# EAGLE library part RJ45 (library magzor-connectors)
-SE: Molex 43249-8104; -TE: Molex 42878-1001
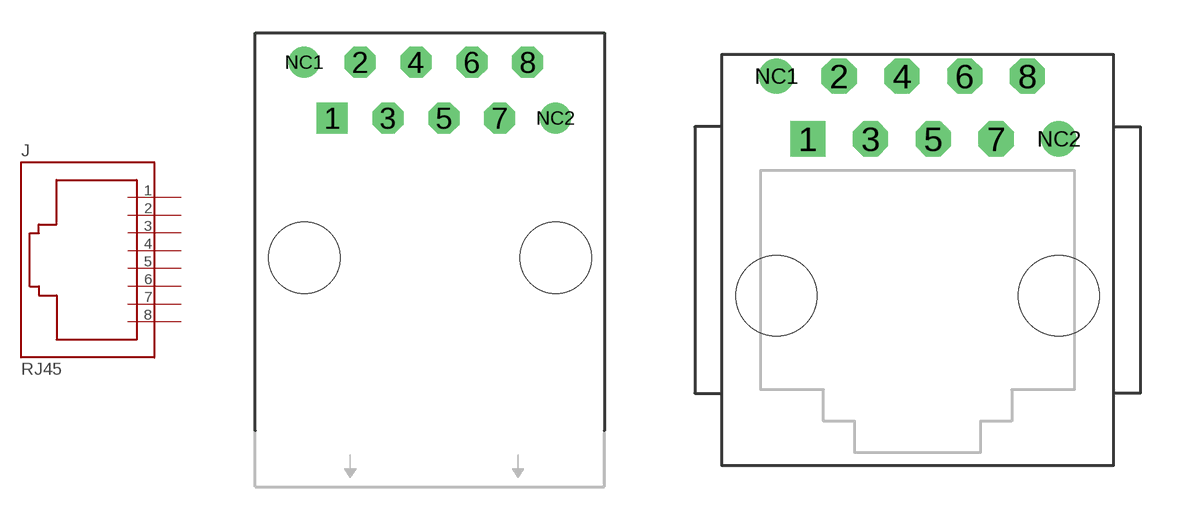
[diagram p6: symbol with the pads of RJ45-SE; footprints RJ45-SE, RJ45-TE]

Designator prefix J

## RJ45-SE  [RJ45-SE]
1  1
2  2
3  3
4  4
5  5
6  6
7  7
8  8

## RJ45-TE  [RJ45-TE]
Pads as for RJ45-SE

## Footprint RJ45-SE (pad centres in mm)
Molex 43249-8104 side entry RJ45 jack (these are nice and clicky)
drill 0.9 square: 1 -4.445,6.604
drill 0.9 octagon: 2 -3.175,9.144; 3 -1.905,6.604; 4 -0.635,9.144; 5 0.635,6.604; 6 1.905,9.144; 7 3.175,6.604; 8 4.445,9.144
drill 0.9: NC1 -5.715,9.144; NC2 5.715,6.604
hole 3.251 at 5.715,0.254
hole 3.251 at -5.715,0.254

## Footprint RJ45-TE (pad centres in mm)
Molex 42878-1001 top entry RJ45 connector
drill 0.914 square: 1 -4.445,6.35
drill 0.914 octagon: 2 -3.175,8.89; 3 -1.905,6.35; 4 -0.635,8.89; 5 0.635,6.35; 6 1.905,8.89; 7 3.175,6.35; 8 4.445,8.89
drill 0.914: NC1 -5.715,8.89; NC2 5.715,6.35
hole 3.251 at 5.715,0
hole 3.251 at -5.715,0